# Altium schematic symbol library Connectors.SchLib: 11 symbols
Pins are listed as number, name and electrical type; pins without a type are passive.

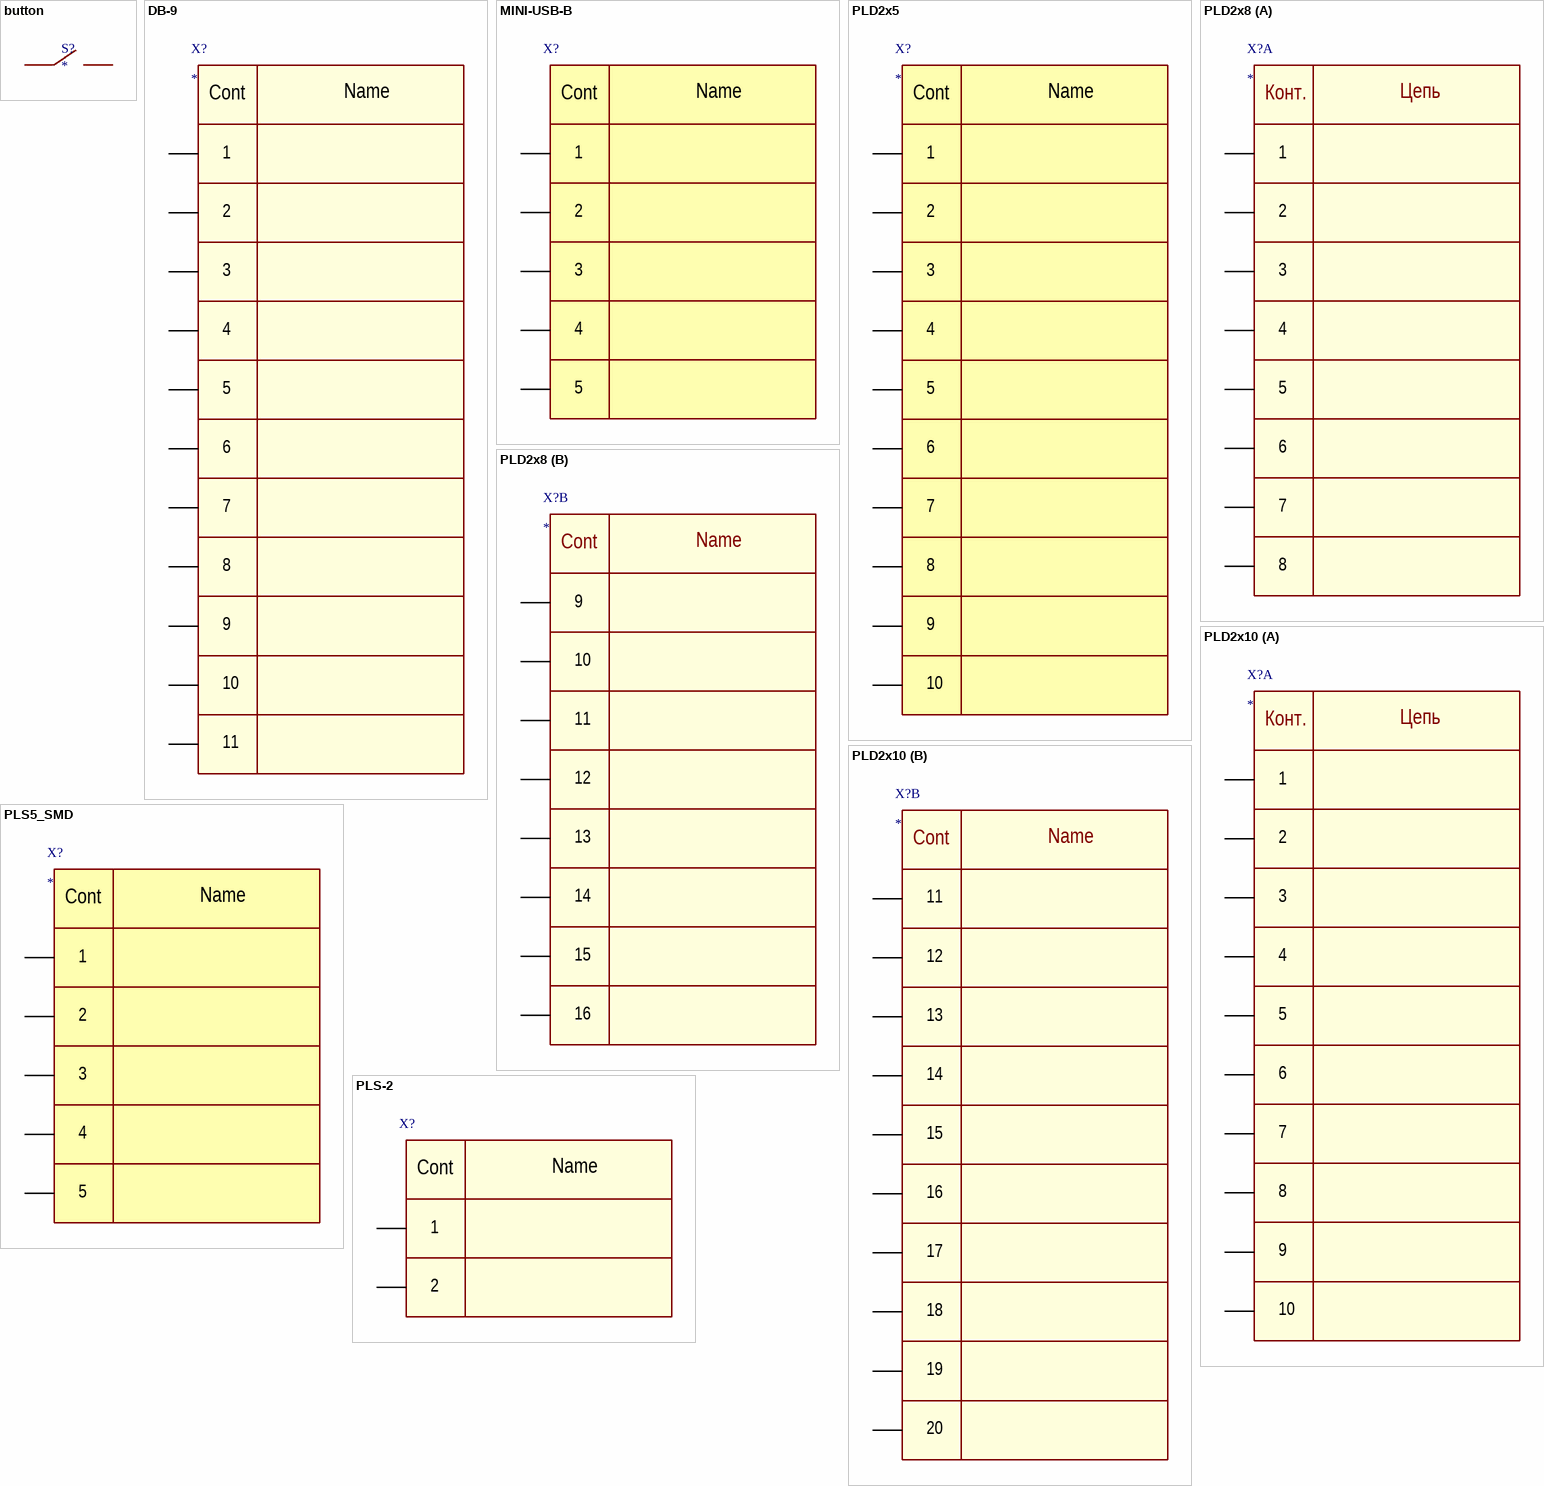
[diagram p0: symbols button to PLS-2]

## button
designator S?
Tact button SPST; Manufacturer: *; ComponentLink1Description: Datasheet; ComponentLink1URL: *
footprint 1243S (12x12 tact button SMD)
pins: 1, 2

## DB-9
designator X?
DB-9 connector; Manufacturer: *; ComponentLink1Description: Datasheet; ComponentLink1URL: *
footprint DB-9F (Connector female; D Subminiature; 9 Position; Right Angle; Pitch 1.385 mm)
footprint DB-9M (Connector male; D Subminiature; 9 Position; Right Angle; Pitch 1.385 mm)
pins: 1, 2, 3, 4, 5, 6, 7, 8, 9, 10, 11
text: Cont; Name

## MINI-USB-B
designator X?  (value not drawn)
Mini USB-B connector; Manufacturer: *; ComponentLink1Description: Datasheet; ComponentLink1URL: *
footprint Mini-USB-B (Mini USB 2.0 Type B SMT Horizontal 5 Contacts)
pins: 1, 2, 3, 4, 5
text: Cont; Name

## PLD2x5
designator X?
Connector PLD2x5; Manufacturer: *; ComponentLink1Description: Datasheet; ComponentLink1URL: *
footprint PLS-5_SMD (Connector; Header; 5 Position)
pins: 1, 2, 3, 4, 5, 6, 7, 8, 9, 10
text: Cont; Name

## PLD2x8
designator X?
PLD2x8 connector; Manufacturer: *; ComponentLink1Description: Datasheet; ComponentLink1URL: *
footprint PLD2x8 (Connector; Header; 8x2 Position)
footprint PLS-16_12 (Connector type 12; Header; 16 Position)
part A pins: 1, 2, 3, 4, 5, 6, 7, 8
part B pins: 9, 10, 11, 12, 13, 14, 15, 16
part A text: Конт.; Цепь
part B text: Cont; Name

## PLD2x10
designator X?
PLD2x10 connector; Manufacturer: *; ComponentLink1Description: Datasheet; ComponentLink1URL: *
footprint PLD2x10 (Connector; Header; 10x2 Position)
part A pins: 1, 2, 3, 4, 5, 6, 7, 8, 9, 10
part B pins: 11, 12, 13, 14, 15, 16, 17, 18, 19, 20
part A text: Конт.; Цепь
part B text: Cont; Name

## PLS5_SMD
designator X?
PLS smd connector; Manufacturer: *; ComponentLink1Description: Datasheet; ComponentLink1URL: *
footprint PLS-5_SMD (Connector; Header; 5 Position)
pins: 1, 2, 3, 4, 5
text: Cont; Name

## PLS-2
designator X?  (value not drawn)
Connector PLS-2; Manufacturer: *; ComponentLink1Description: Datasheet; ComponentLink1URL: *
footprint PLS-2 (Connector; Header; 2 Position)
pins: 1, 2
text: Cont; Name

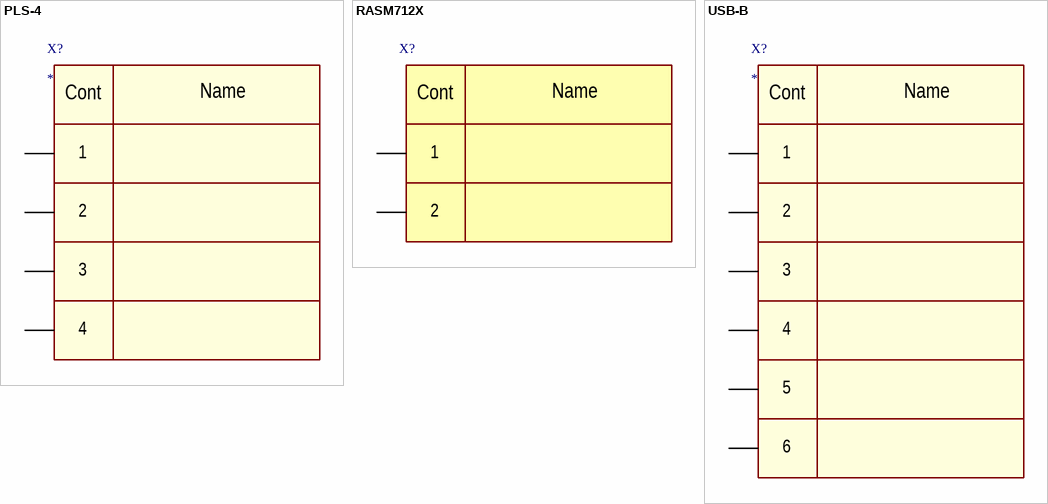
[diagram p1: symbols PLS-4 to USB-B]

## PLS-4
designator X?
PLS-4 connector; Manufacturer: *; ComponentLink1Description: Datasheet; ComponentLink1URL: *
footprint PLS-4 (Connector; Header; 4 Position)
pins: 1, 2, 3, 4
text: Cont; Name

## RASM712X
designator X?  (value not drawn)
Power jack 2.5 mm SMD connector; Manufacturer: Switchcraft; ComponentLink1Description: Datasheet; ComponentLink1URL: *
footprint RASM712 (Power jack 2.5mm SMD mounting)
pins: 1, 2
text: Cont; Name

## USB-B
designator X?
USB-B connector; Manufacturer: *; ComponentLink1Description: Datasheet; ComponentLink1URL: *
footprint FCI USB 61729-0010BLF
pins: 1, 2, 3, 4, 5, 6
text: Cont; Name